# Altium footprint library SOIC8N.PcbLib: 1 footprints
Each footprint in its own frame and in the unit in brackets; x right, y up, seen from the top. Pads: shape width x height; smd on the part's side, far side on the other; paste and mask are expansions set on the pad; w line width, h text height; cw(c..) or ccw(c..) is an arc to the next point about the centre after c.
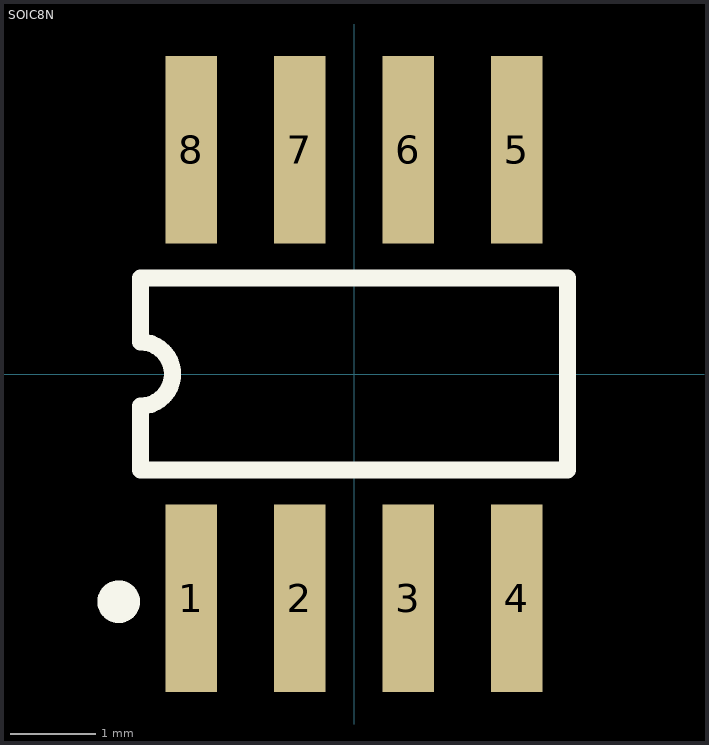
[diagram p0: the footprint, top view; thin cyan lines are the x and y axes]

## SOIC8N [mm] "Small Outline; 8 Leads; Body Width 3.9 mm; Pitch 1.27 mm"
height 1.75
pads (8):
  rect 0.6x2.2 smd: 1(-1.905,-2.625) 2(-0.635,-2.625) 3(0.635,-2.625) 4(1.905,-2.625) 5(1.905,2.625) 6(0.635,2.625) 7(-0.635,2.625) 8(-1.905,2.625)
Top Overlay:
  circle w0.25: c-2.755,-2.665 r0.125
  lines w0.2: -2.5,-1.125 2.5,-1.125 2.5,1.125 -2.5,1.125 -2.5,0.375 cw(c-2.5,0) -2.5,-0.375 -2.5,-1.125
3D body: height 2.65, standoff 0, extent -2.54,-1.397 2.54,1.397